# EAGLE library part D52QD2M4IA (library D52-SoC)
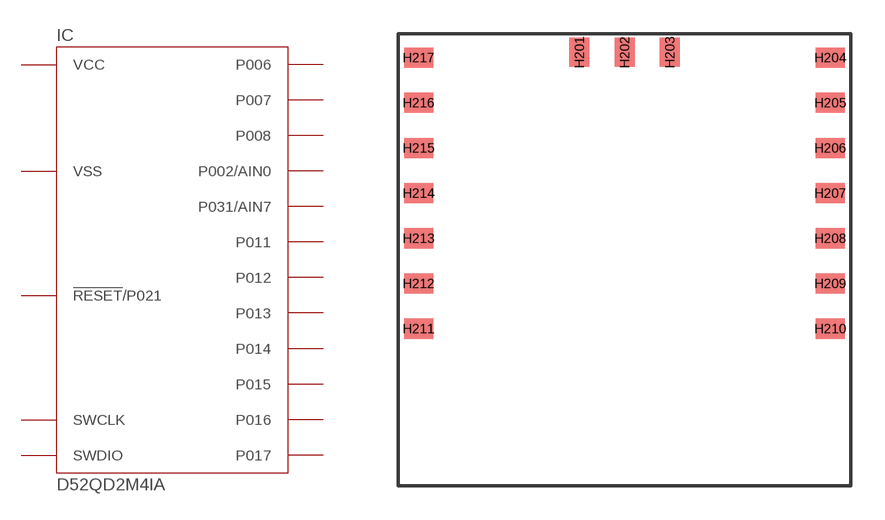
[diagram p0: symbol with the pads of D52Q; footprint D52Q]

Designator prefix IC

## D52QD2M4IA, D52QD2M4IA-A  [D52Q]
H201  SWDIO
H202  !RESET!/P021
H203  VCC
H204  VSS
H205  SWCLK
H206  P006
H207  P007
H208  P002/AIN0
H209  P008
H210  P011
H211  P017
H212  P016
H213  P015
H214  P014
H215  P013
H216  P031/AIN7
H217  P012

## Footprint D52Q (pad centres in mm)
smd 0.89 x 1.27: H201 -1.995,9.185; H202 0.005,9.185; H203 2.005,9.185
smd 1.27 x 0.89: H204 9.105,8.95; H205 9.105,6.95; H206 9.105,4.95; H207 9.105,2.95; H208 9.105,0.95; H209 9.105,-1.05; H210 9.105,-3.05; H211 -9.105,-3.05; H212 -9.105,-1.05; H213 -9.105,0.95; H214 -9.105,2.95; H215 -9.105,4.95; H216 -9.105,6.95; H217 -9.105,8.95